# Altium footprint library SMF5P0A.PcbLib: 3 footprints
Each footprint in its own frame and in the unit in brackets; x right, y up, seen from the top. Pads: shape width x height; smd on the part's side, far side on the other; paste and mask are expansions set on the pad; w line width, h text height; cw(c..) or ccw(c..) is an arc to the next point about the centre after c.
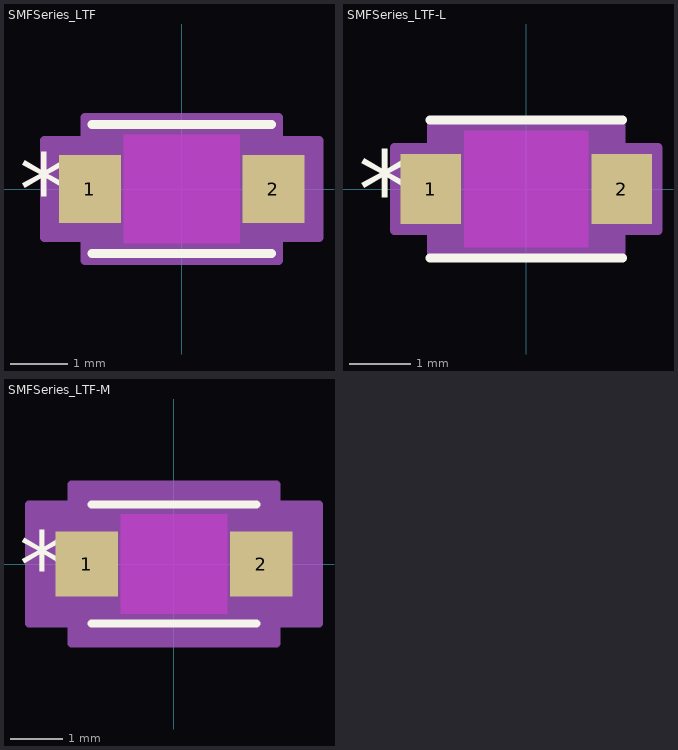
[diagram p0: the footprints below, top view; thin cyan lines are the x and y axes]

## SMFSeries_LTF [mil]
pads (2):
  rect 42.87x47 smd paste+0 mask+0: 1(-63.44,0) 2(63.44,0)
Top Layer keep-out:
  region: -40,-37.5 -40,37.5 40,37.5 40,-37.5
Top Overlay:
  lines w6: -62,-44.5 62,-44.5 ; -62,44.5 62,44.5
  text ".Designator" at -137.5,-25 h50
  text "*" at -112.37,-25 h50
Keep-Out Layer:
  region: -40,-37.5 -40,37.5 40,37.5 40,-37.5
Mechanical 13:
  lines w1: -57,-19.75 -37.25,-39.5 ; -57,19.75 -37.25,39.5 ; -77,-23.5 -77,23.5 -57,23.5 -57,-23.5 -77,-23.5 ; -57,-39.5 57,-39.5 57,39.5 -57,39.5 -57,-39.5 ; 57,-23.5 57,23.5 77,23.5 77,-23.5 57,-23.5
  text "*" at -59.5,-25 h50
  text ".Designator" at -137.5,-25 h50
Mechanical 15:
  region: -67,-33.5 -94.87,-33.5 -94.87,33.5 -67,33.5 -67,49.5 67,49.5 67,33.5 94.87,33.5 94.87,-33.5 67,-33.5 67,-49.5 -67,-49.5
  lines w6: -94.87,-33.5 -94.87,33.5 -67,33.5 -67,49.5 67,49.5 67,33.5 94.87,33.5 94.87,-33.5 67,-33.5 67,-49.5 -67,-49.5 -67,-33.5 -94.87,-33.5
3D body "SMFSeries_LTF.step": height 43.27, standoff 0, extent -77.01,-39.49 77.01,39.49

## SMFSeries_LTF-L [mil]
pads (2):
  rect 38.94x45.03 smd paste+0 mask+0: 1(-61.47,0) 2(61.47,0)
Top Layer keep-out:
  region: -40,-37.5 -40,37.5 40,37.5 40,-37.5
Top Overlay:
  lines w6: -62,-44.5 62,-44.5 ; -62,44.5 62,44.5
  text ".Designator" at -137.5,-25 h50
  text "*" at -108.44,-25 h50
Keep-Out Layer:
  region: -40,-37.5 -40,37.5 40,37.5 40,-37.5
Mechanical 13:
  lines w1: -57,-19.75 -37.25,-39.5 ; -57,19.75 -37.25,39.5 ; -77,-23.5 -77,23.5 -57,23.5 -57,-23.5 -77,-23.5 ; -57,-39.5 57,-39.5 57,39.5 -57,39.5 -57,-39.5 ; 57,-23.5 57,23.5 77,23.5 77,-23.5 57,-23.5
  text "*" at -59.5,-25 h50
  text ".Designator" at -137.5,-25 h50
Mechanical 15:
  region: -61,-26.52 -84.94,-26.52 -84.94,26.52 -61,26.52 -61,43.5 61,43.5 61,26.52 84.94,26.52 84.94,-26.52 61,-26.52 61,-43.5 -61,-43.5
  lines w6: -84.94,-26.52 -84.94,26.52 -61,26.52 -61,43.5 61,43.5 61,26.52 84.94,26.52 84.94,-26.52 61,-26.52 61,-43.5 -61,-43.5 -61,-26.52 -84.94,-26.52
3D body "SMFSeries_LTF.step": height 43.27, standoff 0, extent -77.01,-39.49 77.01,39.49

## SMFSeries_LTF-M [mil]
pads (2):
  rect 46.81x48.97 smd paste+0 mask+0: 1(-65.41,0) 2(65.41,0)
Top Layer keep-out:
  region: -40,-37.5 -40,37.5 40,37.5 40,-37.5
Top Overlay:
  lines w6: -62,-44.5 62,-44.5 ; -62,44.5 62,44.5
  text ".Designator" at -137.5,-25 h50
  text "*" at -116.31,-25 h50
Keep-Out Layer:
  region: -40,-37.5 -40,37.5 40,37.5 40,-37.5
Mechanical 13:
  lines w1: -57,-19.75 -37.25,-39.5 ; -57,19.75 -37.25,39.5 ; -77,-23.5 -77,23.5 -57,23.5 -57,-23.5 -77,-23.5 ; -57,-39.5 57,-39.5 57,39.5 -57,39.5 -57,-39.5 ; 57,-23.5 57,23.5 77,23.5 77,-23.5 57,-23.5
  text "*" at -59.5,-25 h50
  text ".Designator" at -137.5,-25 h50
Mechanical 15:
  region: -77,-44.48 -108.81,-44.48 -108.81,44.48 -77,44.48 -77,59.5 77,59.5 77,44.48 108.81,44.48 108.81,-44.48 77,-44.48 77,-59.5 -77,-59.5
  lines w6: -108.81,-44.48 -108.81,44.48 -77,44.48 -77,59.5 77,59.5 77,44.48 108.81,44.48 108.81,-44.48 77,-44.48 77,-59.5 -77,-59.5 -77,-44.48 -108.81,-44.48
3D body "SMFSeries_LTF.step": height 43.27, standoff 0, extent -77.01,-39.49 77.01,39.49